# Altium schematic symbol library LT1057IS8#PBF.SchLib: 1 symbol
Pins are listed as number, name and electrical type; pins without a type are passive.

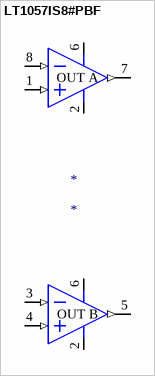
[diagram p0: symbol LT1057IS8#PBF]

## LT1057IS8#PBF
designator *
pins: 1 +IN A (in), 2 -Vcc (power), 2 -Vcc (power), 3 +IN B (in), 4 +IN B (in), 5 OUT B (out), 6 +Vcc (power), 6 +Vcc (power), 7 OUT A (out), 8 -IN A (in)